# Altium footprint library MOSFET_CSD19531Q5A.PcbLib: 1 footprints
Each footprint in its own frame and in the unit in brackets; x right, y up, seen from the top. Pads: shape width x height; smd on the part's side, far side on the other; paste and mask are expansions set on the pad; w line width, h text height; cw(c..) or ccw(c..) is an arc to the next point about the centre after c.
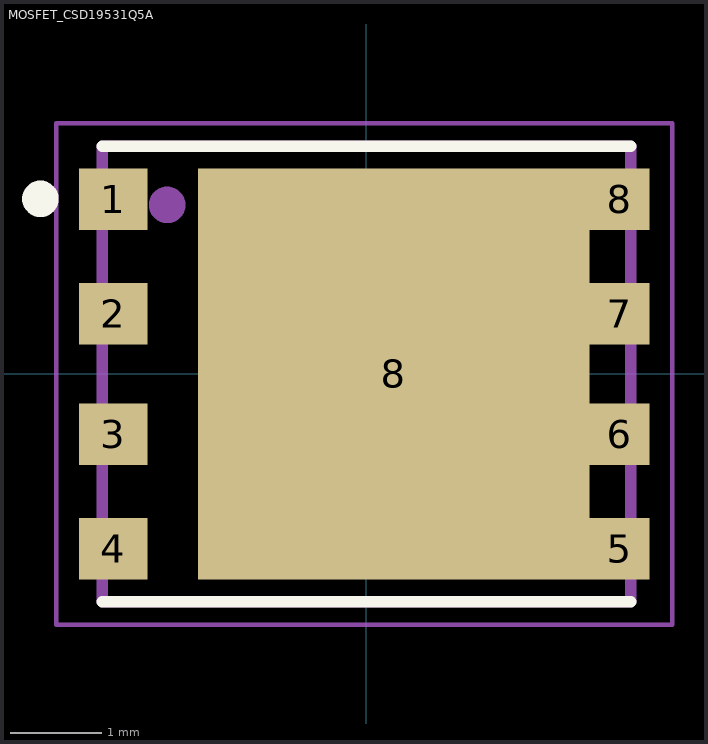
[diagram p0: the footprint, top view; thin cyan lines are the x and y axes]

## MOSFET_CSD19531Q5A [mm]
pads (9):
  rect 0.75x0.675 smd paste-1: 1(-2.776,1.917) 2(-2.776,0.66) 3(-2.776,-0.66) 4(-2.776,-1.917)
  rect 0.655x0.675 smd paste-1: 5(2.776,-1.917) 6(2.776,-0.66) 7(2.776,0.66) 8(2.776,1.917)
  rect 4.295x4.51 smd paste-3: 8(0.301,0)
Top Overlay:
  circle w0.3: c-3.578,1.921 r0.05
  lines w0.127: -2.9,-2.5 2.9,-2.5 ; -2.9,2.5 2.9,2.5
Top Paste:
  region: -0.174,0.31 -1.409,0.31 -1.409,1.88 -0.174,1.88
  region: 1.911,0.31 0.327,0.31 0.327,1.88 1.911,1.88
  region: -0.174,-1.883 -1.411,-1.883 -1.411,-0.31 -0.174,-0.31
  region: 1.911,-1.882 0.327,-1.882 0.327,-0.31 1.911,-0.31
  region: 3.026,1.668 2.527,1.668 2.527,2.167 3.026,2.167
  region: 3.026,0.41 2.528,0.41 2.528,0.91 3.026,0.91
  region: 3.026,-0.91 2.528,-0.91 2.528,-0.41 3.026,-0.41
  region: 3.026,-2.172 2.531,-2.172 2.531,-1.667 3.026,-1.667
  region: -2.526,1.67 -3.03,1.67 -3.03,2.167 -2.526,2.167
  region: -2.526,0.41 -3.027,0.41 -3.027,0.91 -2.526,0.91
  region: -2.526,-0.91 -3.026,-0.91 -3.026,-0.41 -2.526,-0.41
  region: -2.526,-2.171 -3.031,-2.171 -3.031,-1.667 -2.526,-1.667
Assembly Top:
  circle w0.3: c-2.186,1.855 r0.05
  lines w0.127: -2.9,-2.5 -2.9,2.5 2.9,2.5 2.9,-2.5 -2.9,-2.5
Top Courtyard:
  lines w0.05: -3.401,-2.75 -3.401,2.75 3.354,2.75 3.354,-2.75 -3.401,-2.75